# Altium footprint library 2_Layers_Stackup.PcbLib: 1 footprints
Each footprint in its own frame and in the unit in brackets; x right, y up, seen from the top. Pads: shape width x height; smd on the part's side, far side on the other; paste and mask are expansions set on the pad; w line width, h text height; cw(c..) or ccw(c..) is an arc to the next point about the centre after c.
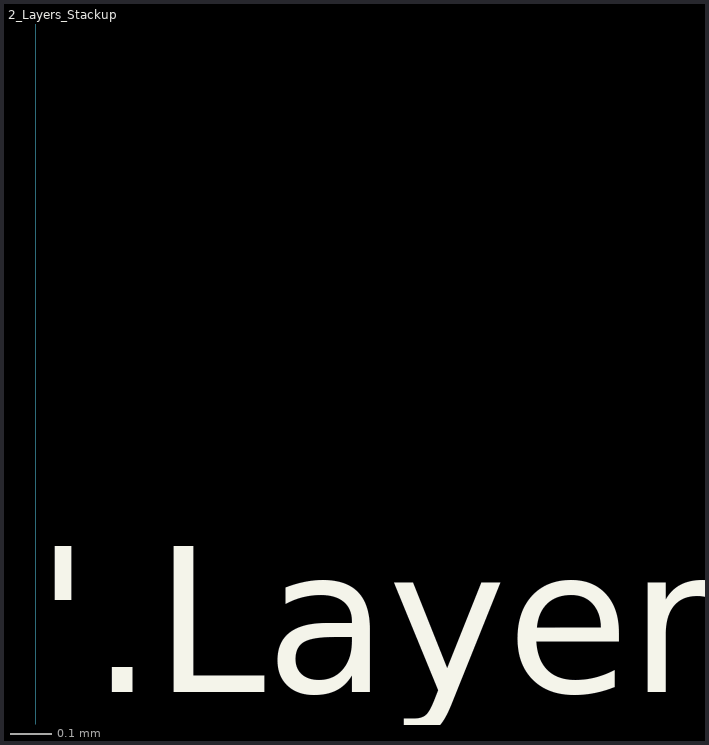
[diagram p0: the footprint, top view; thin cyan lines are the x and y axes]

## 2_Layers_Stackup [mm]
Top Layer:
  text "'.Layer_Name'" at 0,25.4 h1.52
Bottom Layer:
  text "'.Layer_Name'" at 0,22.86 h1.52
Top Overlay:
  text "'.Layer_Name'" at 0,17.78 h1.52
Bottom Overlay:
  text "'.Layer_Name'" at 0,15.24 h1.52
Top Paste:
  text "'.Layer_Name'" at 0,12.7 h1.52
Bottom Paste:
  text "'.Layer_Name'" at 0,10.16 h1.52
Top Solder:
  text "'.Layer_Name'" at 0,7.62 h1.52
Bottom Solder:
  text "'.Layer_Name'" at 0,5.08 h1.52
Drill Guide:
  text "'.Layer_Name'" at 0,2.54 h1.52
Mechanical 1:
  text "Mechanical 1 is board outline" at 0,20.32 h1.52
Multi-Layer:
  text "'.Layer_Name'" at 0,0 h1.52